# Altium footprint library controllerPcbLib.PcbLib: 5 footprints
Each footprint in its own frame and in the unit in brackets; x right, y up, seen from the top. Pads: shape width x height; smd on the part's side, far side on the other; paste and mask are expansions set on the pad; w line width, h text height; cw(c..) or ccw(c..) is an arc to the next point about the centre after c.
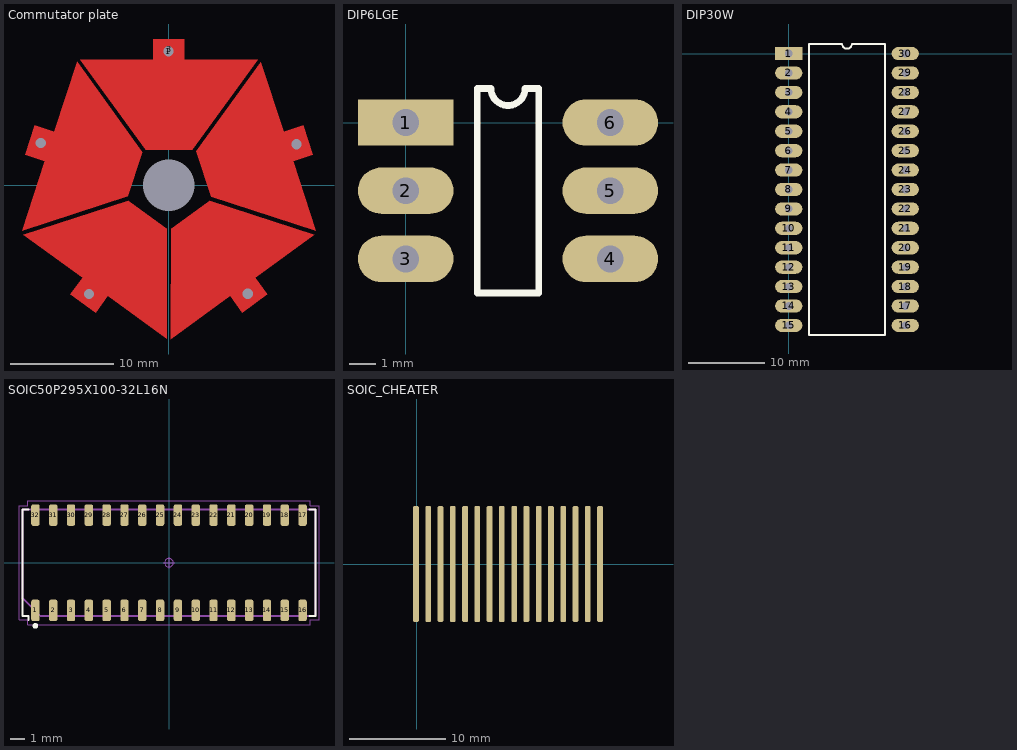
[diagram p0: the footprints below, top view; thin cyan lines are the x and y axes]

## Commutator plate [mm]
pads (8):
  round 1 on Drill Guide: 1(-0.088,12.953) 3(0.011,13.138)
  round 0 hole 1: 4(-12.401,4.083) 4(-7.735,-10.525) 4(-0.048,12.942) 4(7.637,-10.486) 4(12.34,3.968)
  round 0 hole 5: 4(-0.008,-0.003)
Top Layer:
  region: 12.984,5.796 11.082,5.178 8.898,11.902 2.65,3.303 4.086,-1.116 14.202,-4.425 12.009,2.325 13.911,2.943
  region: 9.525,-10.558 8.349,-8.94 14.069,-4.784 3.953,-1.498 0.201,-4.223 0.181,-14.875 5.922,-10.703 7.098,-12.321
  region: -7.098,-12.321 -5.922,-10.703 -0.202,-14.859 -0.203,-4.211 -3.944,-1.493 -14.091,-4.768 -8.349,-8.94 -9.525,-10.558
  region: -13.911,2.943 -12.009,2.325 -14.194,-4.399 -3.971,-1.077 -2.579,3.207 -8.889,11.928 -11.082,5.178 -12.984,5.796
  region: -1.5,14.14 -1.5,12.14 -8.57,12.14 -2.233,3.419 2.235,3.419 8.597,12.14 1.5,12.14 1.5,14.14

## DIP6LGE [mil]
pads (6):
  rect 140x68 hole 39.37: 1(0,0)
  oval 140x68 hole 39.37: 2(0,-100) 3(0,-200) 4(300,-200) 5(300,-100) 6(300,0)
Top Overlay:
  lines w10: 105,-250 105,50 125,50 ccw(c150,50) 175,50 195,50 195,-250 105,-250

## DIP30W [mil]
pads (30):
  rect 140x68 hole 39.37: 1(0,0)
  oval 140x68 hole 39.37: 2(0,-100) 3(0,-200) 4(0,-300) 5(0,-400) 6(0,-500) 7(0,-600) 8(0,-700) 9(0,-800) 10(0,-900) 11(0,-1000) 12(0,-1100) 13(0,-1200) 14(0,-1300) 15(0,-1400) 16(600,-1400) 17(600,-1300) 18(600,-1200) 19(600,-1100) 20(600,-1000) 21(600,-900) 22(600,-800) 23(600,-700) 24(600,-600) 25(600,-500) 26(600,-400) 27(600,-300) 28(600,-200) 29(600,-100) 30(600,0)
Top Overlay:
  lines w10: 105,-1450 105,50 275,50 ccw(c300,50) 325,50 495,50 495,-1450 105,-1450

## SOIC50P295X100-32L16N [mil] "Small Outline IC (SOIC), 0.050 in pitch;32 pin,0.816 in L X 0.296 in W X 0.100 in H body"
height 100
pads (32):
  rrect50% 23.48x60.53 smd: 1(-375,-133.89) 2(-325,-133.89) 3(-275,-133.89) 4(-225,-133.89) 5(-175,-133.89) 6(-125,-133.89) 7(-75,-133.89) 8(-25,-133.89) 9(25,-133.89) 10(75,-133.89) 11(125,-133.89) 12(175,-133.89) 13(225,-133.89) 14(275,-133.89) 15(325,-133.89) 16(375,-133.89) 17(375,133.89) 18(325,133.89) 19(275,133.89) 20(225,133.89) 21(175,133.89) 22(125,133.89) 23(75,133.89) 24(25,133.89) 25(-25,133.89) 26(-75,133.89) 27(-125,133.89) 28(-175,133.89) 29(-225,133.89) 30(-275,133.89) 31(-325,133.89) 32(-375,133.89)
Top Overlay:
  circle w8: c-375,-177.15 r4
  lines w5: -394.24,-161.65 -394.24,-149.5 -411,-149.5 -411,149.5 -394.24,149.5 ; 394.24,-149.5 411,-149.5 411,149.5 394.24,149.5
Mechanical 11:
  lines w5: -411,-99.5 -411,149.5 411,149.5 411,-149.5 -361,-149.5 -411,-99.5
Mechanical 15:
  circle w2: c0,0 r12
  lines w2: -16,0 16,0 ; 0,-16 0,16 ; -421,-159.5 -421,159.5 -396.74,159.5 -396.74,174.15 396.74,174.15 396.74,159.5 421,159.5 421,-159.5 396.74,-159.5 396.74,-174.15 -396.74,-174.15 -396.74,-159.5 -421,-159.5

## SOIC_CHEATER [mm]
pads (16):
  rrect50% 0.596x12 smd: 17(18.992,0.039) 18(17.722,0.039) 19(16.452,0.039) 20(15.182,0.039) 21(13.912,0.039) 22(12.642,0.039) 23(11.372,0.039) 24(10.102,0.039) 25(8.832,0.039) 26(7.562,0.039) 27(6.292,0.039) 28(5.022,0.039) 29(3.752,0.039) 30(2.482,0.039) 31(1.212,0.039) 32(-0.058,0.039)